# Altium footprint library Common.PcbLib: 50 footprints (part 3 of 4)
Each footprint in its own frame and in the unit in brackets; x right, y up, seen from the top. Pads: shape width x height; smd on the part's side, far side on the other; paste and mask are expansions set on the pad; w line width, h text height; cw(c..) or ccw(c..) is an arc to the next point about the centre after c.
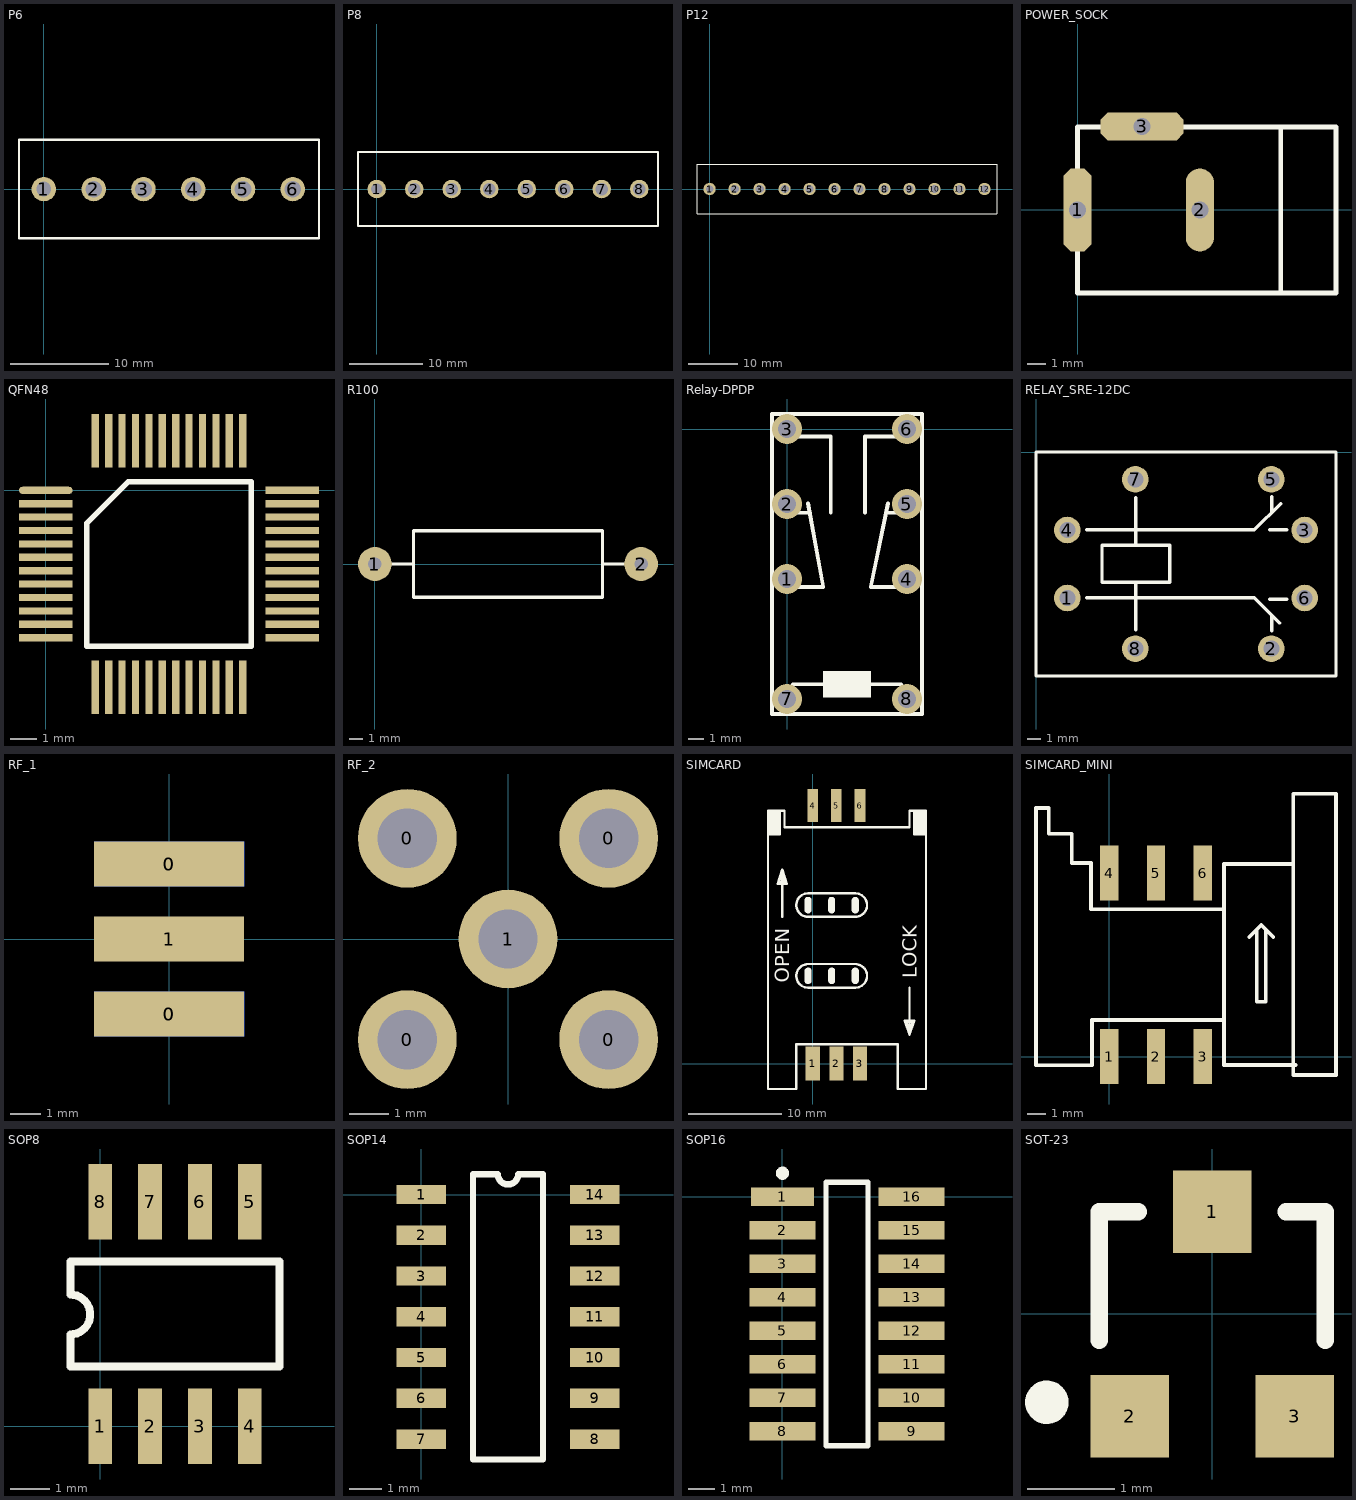
[diagram p2: the footprints below, top view; thin cyan lines are the x and y axes]

## P6 [mm]
pads (6):
  round 2.5 hole 1.5: 1(0,0)
  round 2.5 hole 1.7: 2(5.08,0) 3(10.16,0) 4(15.24,0) 5(20.32,0) 6(25.4,0)
Top Overlay:
  lines w0.254: -2.54,-5 28.067,-5 28.067,5.02 -2.54,5.02 -2.54,-5

## P8 [mm]
pads (8):
  round 2.5 hole 1.5: 1(0,0)
  round 2.5 hole 1.7: 2(5.08,0) 3(10.16,0) 4(15.24,0) 5(20.32,0) 6(25.4,0) 7(30.48,0) 8(35.56,0)
Top Overlay:
  lines w0.254: 38.091,-4.2 38.1,-4.191 ; -2.54,-5 38.1,-5 38.1,5.02 -2.54,5.02 -2.54,-5

## P12 [mm]
pads (12):
  round 2.5 hole 1.5: 1(0,0)
  round 2.5 hole 1.7: 2(5.08,0) 3(10.16,0) 4(15.24,0) 5(20.32,0) 6(25.4,0) 7(30.48,0) 8(35.56,0) 9(40.64,0) 10(45.72,0) 11(50.8,0) 12(55.88,0)
Top Overlay:
  lines w0.254: -2.56,-5 58.411,-5 ; -2.56,5.02 58.42,5.02 58.42,-5 ; -2.54,-5 -2.54,5.02 ; 58.411,4.2 58.42,4.191

## POWER_SOCK [mm]
pads (3):
  oct 1.524x4.5 hole 0.914: 1(0,0)
  oval 1.524x4.5 hole 0.914: 2(6.625,0)
  oct 4.5x1.524 hole 0.914: 3(3.5,4.525)
Top Overlay:
  lines w0.254: 11,-4.5 11,4.492 ; 0,-4.5 14,-4.5 14,4.492 0,4.492 0,-4.5
Mechanical 1:
  lines w0.1: -0.4,-1.075 ccw(c0,-0.675) 0.4,-1.075 0.4,1.125 ccw(c0,0.725) -0.4,1.125 -0.4,-1.075 ; 2.425,4.15 cw(c2.825,4.55) 2.425,4.95 4.625,4.95 cw(c4.225,4.55) 4.625,4.15 2.425,4.15 ; 6.225,-1.075 ccw(c6.625,-0.675) 7.025,-1.075 7.025,1.125 ccw(c6.625,0.725) 6.225,1.125 6.225,-1.075

## QFN48 [mm]
pads (48):
  oval 2x0.27 smd: 1(0,0)
  rect 2x0.27 smd: 2(0,-0.5) 3(0,-1) 4(0,-1.5) 5(0,-2) 6(0,-2.5) 7(0,-3) 8(0,-3.5) 9(0,-4) 10(0,-4.5) 11(0,-5) 12(0,-5.5) 25(9.2,-5.5) 26(9.2,-5) 27(9.2,-4.5) 28(9.2,-4) 29(9.2,-3.5) 30(9.2,-3) 31(9.2,-2.5) 32(9.2,-2) 33(9.2,-1.5) 34(9.2,-1) 35(9.2,-0.5) 36(9.2,0)
  rect 0.27x2 smd: 13(1.85,-7.35) 14(2.35,-7.35) 15(2.85,-7.35) 16(3.35,-7.35) 17(3.85,-7.35) 18(4.35,-7.35) 19(4.85,-7.35) 20(5.35,-7.35) 21(5.85,-7.35) 22(6.35,-7.35) 23(6.85,-7.35) 24(7.35,-7.35) 37(7.35,1.85) 38(6.85,1.85) 39(6.35,1.85) 40(5.85,1.85) 41(5.35,1.85) 42(4.85,1.85) 43(4.35,1.85) 44(3.85,1.85) 45(3.35,1.85) 46(2.85,1.85) 47(2.35,1.85) 48(1.85,1.85)
Top Overlay:
  lines w0.2: 1.535,-5.815 7.665,-5.815 7.665,0.315 3.07,0.315 1.535,-1.22 1.535,-5.815

## R100 [mm]
pads (2):
  round 2.54 hole 1: 1(0,0) 2(20,0)
Top Overlay:
  lines w0.254: 1.143,0 2.9,0 ; 17.1,0 18.796,0 ; 2.9,-2.5 17.1,-2.5 17.1,2.5 2.9,2.5 2.9,-2.5

## Relay-DPDP [mm]
pads (8):
  round 2 hole 1.2: 1(0,-10) 2(0,-5) 3(0,0) 4(8,-10) 5(8,-5) 6(8,0) 7(0,-18) 8(8,-18)
Top Overlay:
  rectangle: 2.413,-17.907 5.588,-16.129
  lines w0.254: 0.381,-17.018 2.54,-17.018 ; 0.508,-10.541 2.413,-10.541 1.397,-4.953 ; 0.508,-5.588 1.524,-5.588 ; 0.635,-0.508 2.921,-0.508 2.921,-5.588 ; 5.207,-17.018 7.62,-17.018 ; 5.207,-5.588 5.207,-0.508 7.493,-0.508 ; 6.731,-5.588 7.493,-5.588 ; 6.731,-4.953 5.588,-10.541 7.493,-10.541 ; -1,-19 -1,1 9,1 9,-19 -1,-19

## RELAY_SRE-12DC [mm]
height 18.8
pads (8):
  round 2 hole 1.2: 1(2.35,-10.95) 2(17.65,-14.75) 3(20.15,-5.85) 4(2.35,-5.85) 5(17.65,-2.05) 6(20.15,-10.95) 7(7.45,-2.05) 8(7.45,-14.75)
Top Overlay:
  lines w0.254: 3.81,-10.922 16.383,-10.922 18.288,-12.827 ; 3.81,-5.842 16.383,-5.842 18.351,-3.873 ; 7.493,-13.335 7.493,-9.779 ; 7.493,-6.985 7.493,-3.429 ; 17.526,-11.049 18.796,-11.049 ; 17.526,-5.842 18.796,-5.842 ; 17.692,-4.533 17.692,-3.341 ; 17.696,-13.419 17.696,-12.235 ; 0,-16.8 0,0 22.5,0 22.5,-16.8 0,-16.8 ; 4.953,-9.779 10.033,-9.779 10.033,-6.985 4.953,-6.985 4.953,-9.779

## RF_1 [mm]
pads (5):
  rect 5x1.5 smd: 0(0,-2.5) 0(0,2.5) 1(0,0)
  rect 5x1.5 smd far side: 0(0,-2.5) 0(0,2.5)

## RF_2 [mm]
pads (5):
  round 2.5 hole 1.5: 0(-2.55,-2.55) 0(-2.55,2.55) 0(2.55,-2.55) 0(2.55,2.55) 1(0,0)

## SIMCARD [mil]
pads (6):
  rect 60x145 smd: 1(0,0) 2(100,0) 3(200,0)
  rect 45x140 smd: 4(0,1095) 5(100,1095) 6(200,1095)
Top Overlay:
  region: -140,972.5 -140,1072.5 -190,1072.5 -190,972.5
  region: 480,972.5 480,1072.5 430,1072.5 430,972.5
  lines w10: -190,972.5 -140,972.5 -140,1072.5 ; -130,622.5 -130,822.5 ; -20,342.5 -20,402.5 ; -20,642.5 -20,702.5 ; 80,342.5 80,402.5 ; 80,642.5 80,702.5 ; 180,342.5 180,402.5 ; 180,642.5 180,702.5 ; 410,322.5 410,122.5 ; 430,1072.5 430,972.5 480,972.5 ; -150,762.5 -130,772.5 -110,762.5 ; -150,762.5 -130,792.5 -110,762.5 ; -150,762.5 -110,762.5 ; -150,762.5 -130,822.5 ; -130,822.5 -110,762.5 ; 390,182.5 410,172.5 430,182.5 ; 390,182.5 410,152.5 430,182.5 ; 390,182.5 410,122.5 ; 390,182.5 430,182.5 ; 410,122.5 430,182.5 ; -190,-107.5 -70,-107.5 -70,82.5 360,82.5 360,-107.5 480,-107.5 480,1072.5 410,1072.5 410,1002.5 -120,1002.5 -120,1072.5 -190,1072.5 -190,-107.5 ; -30,352.5 ccw(c-20,352.5) -10,352.5 -10,392.5 ccw(c-20,392.5) -30,392.5 -30,352.5 ; -30,652.5 ccw(c-20,652.5) -10,652.5 -10,692.5 ccw(c-20,692.5) -30,692.5 -30,652.5 ; -20,322.5 cw(c-20,372.5) -20,422.5 180,422.5 cw(c180,372.5) 180,322.5 -20,322.5 ; -20,622.5 cw(c-20,672.5) -20,722.5 180,722.5 cw(c180,672.5) 180,622.5 -20,622.5 ; 70,352.5 ccw(c80,352.5) 90,352.5 90,392.5 ccw(c80,392.5) 70,392.5 70,352.5 ; 70,652.5 ccw(c80,652.5) 90,652.5 90,692.5 ccw(c80,692.5) 70,692.5 70,652.5 ; 170,352.5 ccw(c180,352.5) 190,352.5 190,392.5 ccw(c180,392.5) 170,392.5 170,352.5 ; 170,652.5 ccw(c180,652.5) 190,652.5 190,692.5 ccw(c180,692.5) 170,692.5 170,652.5
  text "OPEN" at -100,342.5 h60
  text "LOCK" at 440,362.5 h60

## SIMCARD_MINI [mm]
pads (6):
  rect 1x3 smd: 1(0,0) 2(2.54,0) 3(5.08,0) 4(0,10) 5(2.54,10) 6(5.08,10)
Top Overlay:
  lines w0.2: 6.25,2 -0.95,2 -0.95,-0.475 -4,-0.475 -4,13.55 -3.3,13.55 -3.3,12.15 -2.05,12.15 -2.05,10.55 -1,10.55 -1,8.025 6.25,8.025 ; 7.625,6.525 8.275,7.175 8.925,6.525 ; 8.025,6.9 8.025,3 8.525,3 8.525,6.9 ; 10,10.5 6.25,10.5 ; 10.15,-0.45 6.25,-0.45 6.25,10.5 ; 6.25,10.5 6.25,10.5 ; 10.025,-1 10.025,14.325 12.35,14.325 12.35,-1 10.025,-1

## SOP8 [mil]
pads (8):
  rect 24x76 smd: 1(0,0) 2(50,0) 3(100,0) 4(150,0) 5(150,225) 6(100,225) 7(50,225) 8(0,225)
Top Overlay:
  lines w8: -30,60 180,60 180,165 -30,165 -30,132 cw(c-30,112) -30,92 -30,60

## SOP14 [mm]
pads (14):
  rect 1.55x0.6 smd: 1(0,0) 2(0,-1.27) 3(0,-2.54) 4(0,-3.81) 5(0,-5.08) 6(0,-6.35) 7(0,-7.62) 8(5.4,-7.62) 9(5.4,-6.35) 10(5.4,-5.08) 11(5.4,-3.81) 12(5.4,-2.54) 13(5.4,-1.27) 14(5.4,0)
Top Overlay:
  lines w0.2: 1.61,-8.255 3.79,-8.255 3.79,0.635 3.017,0.635 cw(c2.7,0.635) 2.382,0.635 1.61,0.635 1.61,-8.255

## SOP16 [mm]
pads (16):
  rect 2.4x0.7 smd: 1(0,0)
  rect 2.5x0.7 smd: 2(0,-1.27) 3(0,-2.54) 4(0,-3.81) 5(0,-5.08) 6(0,-6.35) 7(0,-7.62) 8(0,-8.89) 9(4.9,-8.89) 10(4.9,-7.62) 11(4.9,-6.35) 12(4.9,-5.08) 13(4.9,-3.81) 14(4.9,-2.54) 15(4.9,-1.27) 16(4.9,0)
Top Overlay:
  circle w0.25: c0,0.9 r0.125
  lines w0.2: 1.65,-9.445 1.65,0.555 3.25,0.555 3.25,-9.445 1.65,-9.445

## SOT-23 [mm]
pads (3):
  rect 0.9x0.95 smd: 1(0,1.175) 2(-0.95,-1.175) 3(0.95,-1.175)
Top Overlay:
  circle w0.25: c-1.903,-1.016 r0.125
  lines w0.2: -1.3,-0.3 -1.3,1.175 -0.85,1.175 ; 0.85,1.175 1.3,1.175 1.3,-0.3